# Altium schematic symbol library 691 311 400 0xx.SchLib: 6 symbols
Pins are listed as number, name and electrical type; pins without a type are passive.

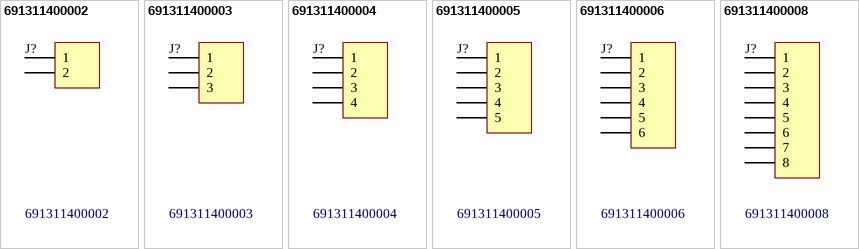
[diagram p0: symbols 691311400002 to 691311400008]

## 691311400002
designator J?
WR-TBL Terminal Blocks Serie 3114 - 7.62 mm; Manufacturer: Würth Elektronik eiSos GmbH; ComponentLink1 Description: Manufacturer; ComponentLink2 Description: Datasheet; NoPins: 02; Created Date: 09 April 2014; partNo: 691311400002; ComponentLink1URL: http://www.we-online.com; ComponentLink2URL: http://katalog.we-online.de/em/datasheet/6913114000xx.pdf; Created by: Karrer Zheng
footprint 691311400002 (7.62 mm - Open Vertical PCB Header - 2p)
pins: 1, 2

## 691311400003
designator J?
WR-TBL Terminal Blocks Serie 3114 - 7.62 mm; Manufacturer: Würth Elektronik eiSos GmbH; ComponentLink1 Description: Manufacturer; ComponentLink2 Description: Datasheet; NoPins: 03; Created Date: 09 April 2014; partNo: 691311400003; ComponentLink1URL: http://www.we-online.com; ComponentLink2URL: http://katalog.we-online.de/em/datasheet/6913114000xx.pdf; Created by: Karrer Zheng
footprint 691311400003 (7.62 mm - Open Vertical PCB Header - 3p)
pins: 1, 2, 3

## 691311400004
designator J?
WR-TBL Terminal Blocks Serie 3114 - 7.62 mm; Manufacturer: Würth Elektronik eiSos GmbH; ComponentLink1 Description: Manufacturer; ComponentLink2 Description: Datasheet; NoPins: 04; Created Date: 09 April 2014; partNo: 691311400004; ComponentLink1URL: http://www.we-online.com; ComponentLink2URL: http://katalog.we-online.de/em/datasheet/6913114000xx.pdf; Created by: Karrer Zheng
footprint 691311400004 (7.62 mm - Open Vertical PCB Header - 4p)
pins: 1, 2, 3, 4

## 691311400005
designator J?
WR-TBL Terminal Blocks Serie 3114 - 7.62 mm; Manufacturer: Würth Elektronik eiSos GmbH; ComponentLink1 Description: Manufacturer; ComponentLink2 Description: Datasheet; NoPins: 05; Created Date: 09 April 2014; partNo: 691311400005; ComponentLink1URL: http://www.we-online.com; ComponentLink2URL: http://katalog.we-online.de/em/datasheet/6913114000xx.pdf; Created by: Karrer Zheng
footprint 691311400005 (7.62 mm - Open Vertical PCB Header - 5p)
pins: 1, 2, 3, 4, 5

## 691311400006
designator J?
WR-TBL Terminal Blocks Serie 3114 - 7.62 mm; Manufacturer: Würth Elektronik eiSos GmbH; ComponentLink1 Description: Manufacturer; ComponentLink2 Description: Datasheet; NoPins: 06; Created Date: 09 April 2014; partNo: 691311400006; ComponentLink1URL: http://www.we-online.com; ComponentLink2URL: http://katalog.we-online.de/em/datasheet/6913114000xx.pdf; Created by: Karrer Zheng
footprint 691311400006 (7.62 mm - Open Vertical PCB Header - 6p)
pins: 1, 2, 3, 4, 5, 6

## 691311400008
designator J?
WR-TBL Terminal Blocks Serie 3114 - 7.62 mm; Manufacturer: Würth Elektronik eiSos GmbH; ComponentLink1 Description: Manufacturer; ComponentLink2 Description: Datasheet; NoPins: 08; Created Date: 09 April 2014; partNo: 691311400008; ComponentLink1URL: http://www.we-online.com; ComponentLink2URL: http://katalog.we-online.de/em/datasheet/6913114000xx.pdf; Created by: Karrer Zheng
footprint 691311400008 (7.62 mm - Open Vertical PCB Header - 8p)
pins: 1, 2, 3, 4, 5, 6, 7, 8